# Altium integrated library TEM-HUM-DHT11_4P-15.5X12.0MM_.IntLib: 1 symbol
Pins are listed as number, name and electrical type; pins without a type are passive.

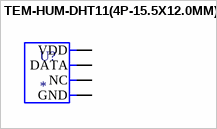
[diagram p0: symbol TEM-HUM-DHT11(4P-15.5X12.0MM)]

## TEM-HUM-DHT11(4P-15.5X12.0MM)
designator U?
Servo AC 100 ~ 120VAC Supply 10A 120V Load; MP: DHT11; MF: Panasonic Industrial Automation Sales; Package: None; SnapEDA_Link: https://www.snapeda.com/parts/DHT11/Panasonic/view-part/6618018/?ref=snap; Check_prices: https://www.snapeda.com/parts/DHT11/Panasonic/view-part/6618018/?ref=eda; Availability: In Stock; Value: *; Price: None; Purchase-URL: https://pricing.snapeda.com/search/part/DHT11/?ref=eda
footprint SNR4-2.54-15.5X12.0X5.5MM
pins: 1 VDD (power), 2 DATA (io), 3 NC, 4 GND (power)